# Altium footprint library bornera.PcbLib: 1 footprints
Each footprint in its own frame and in the unit in brackets; x right, y up, seen from the top. Pads: shape width x height; smd on the part's side, far side on the other; paste and mask are expansions set on the pad; w line width, h text height; cw(c..) or ccw(c..) is an arc to the next point about the centre after c.
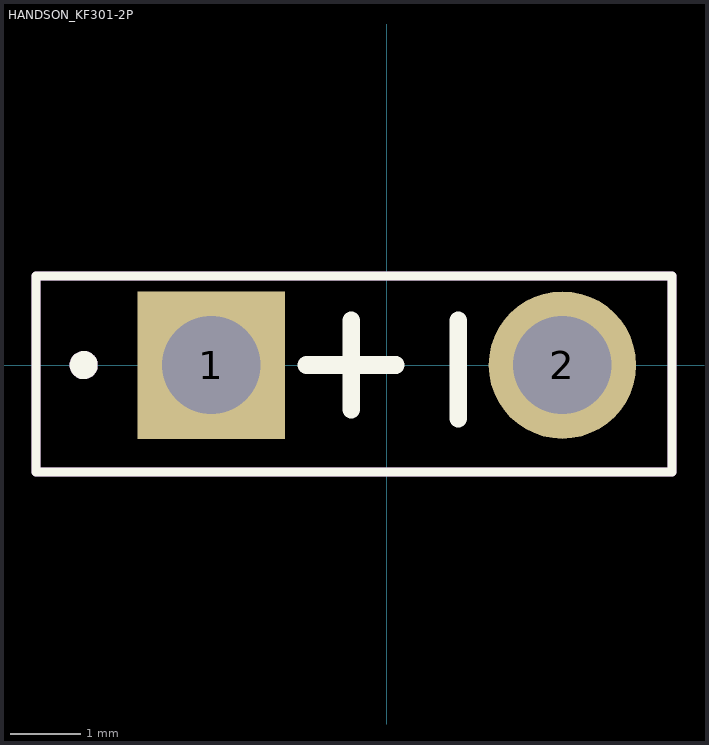
[diagram p0: the footprint, top view; thin cyan lines are the x and y axes]

## HANDSON_KF301-2P [mm]
pads (2):
  rect 2.1x2.1 hole 1.4: 1(-2.5,0)
  round 2.1 hole 1.4: 2(2.5,0)
Top Overlay:
  circle w0.2: c-4.318,0 r0.1
  lines w0.127: -5,-1.524 -5,1.27 4.064,1.27 4.064,-1.524 -5,-1.524
  lines w0.254: -1.143,0 0.127,0 ; -0.508,-0.635 -0.508,0.635 ; 1.016,-0.762 1.016,0.635
Mechanical 13:
  circle w0.2: c-4.318,0 r0.1
  lines w0.127: -5,-1.524 4.064,-1.524 4.064,1.27 -5,1.27 -5,-1.524